# Altium footprint library TQFN-16_4x4x065P.PcbLib: 1 footprints
Each footprint in its own frame and in the unit in brackets; x right, y up, seen from the top. Pads: shape width x height; smd on the part's side, far side on the other; paste and mask are expansions set on the pad; w line width, h text height; cw(c..) or ccw(c..) is an arc to the next point about the centre after c.
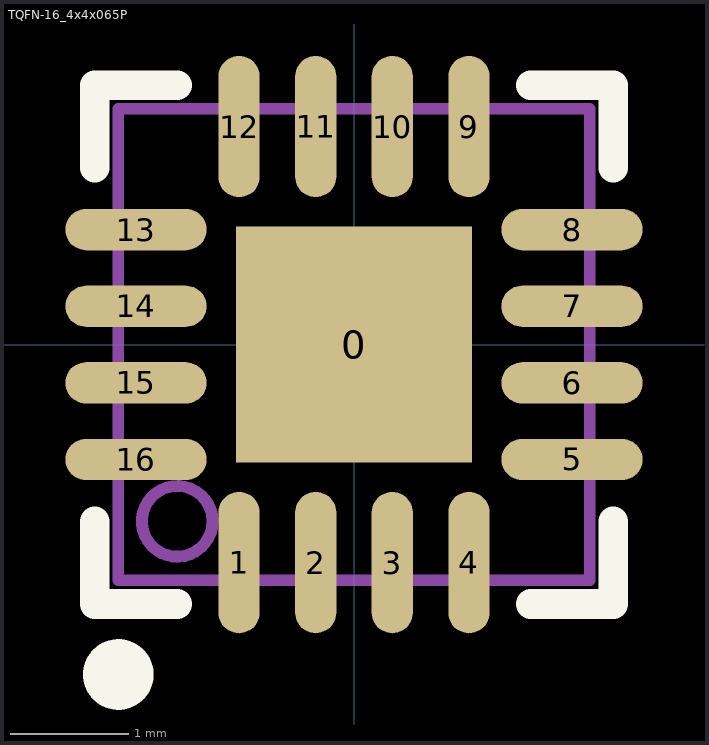
[diagram p0: the footprint, top view; thin cyan lines are the x and y axes]

## TQFN-16_4x4x065P [mm] "QFN, 16-Leads, Body 3.00x3.00mm, Pitch 0.50mm, Thermal Pad 1.70x1.70mm, IPC Medium Density"
height 1
pads (17):
  rect 2x2 smd mask+0.051: 0(0,0)
  oval 0.35x1.2 smd mask+0.051: 1(-0.975,-1.85) 2(-0.325,-1.85) 3(0.325,-1.85) 4(0.975,-1.85) 9(0.975,1.85) 10(0.325,1.85) 11(-0.325,1.85) 12(-0.975,1.85)
  oval 1.2x0.35 smd mask+0.051: 5(1.85,-0.975) 6(1.85,-0.325) 7(1.85,0.325) 8(1.85,0.975) 13(-1.85,0.975) 14(-1.85,0.325) 15(-1.85,-0.325) 16(-1.85,-0.975)
Top Overlay:
  circle w0.3: c-2,-2.8 r0.15
  lines w0.254: -2.2,-1.5 -2.2,-2.2 -1.5,-2.2 ; -2.2,1.5 -2.2,2.2 -1.5,2.2 ; 1.5,-2.2 2.2,-2.2 2.2,-1.5 ; 1.5,2.2 2.2,2.2 2.2,1.5
Mechanical 13:
  circle w0.1: c-1.5,-1.5 r0.3
  lines w0.1: -2,-2 -2,2 2,2 2,-2 -2,-2